# Altium schematic symbol library SCH - MCU - SI LABS - SI LABS EFR32MG12P231F1024GM68 68-PIN QFN 8X8.SchLib: 1 symbol
Pins are listed as number, name and electrical type; pins without a type are passive.

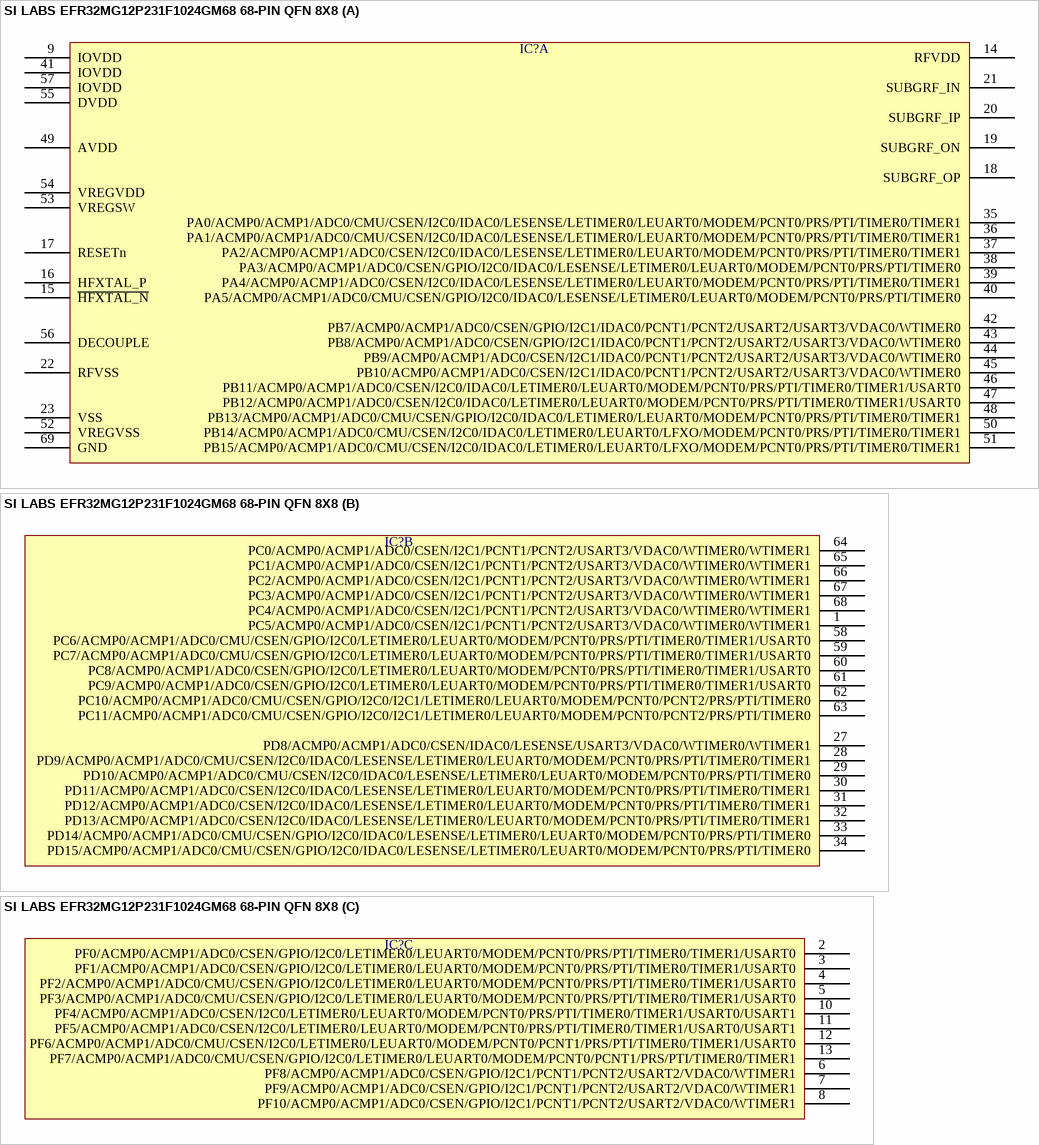
[diagram p0: symbol SI LABS EFR32MG12P231F1024GM68 68-PIN QFN 8X8]

## SI LABS EFR32MG12P231F1024GM68 68-PIN QFN 8X8
designator IC?  (value not drawn)
part A pins: 9 IOVDD, 14 RFVDD, 15 ~{HFXTAL_N}, 16 HFXTAL_P, 17 RESETn, 18 SUBGRF_OP, 19 SUBGRF_ON, 20 SUBGRF_IP, 21 SUBGRF_IN, 22 RFVSS, 23 VSS, 35 PA0/ACMP0/ACMP1/ADC0/CMU/CSEN/I2C0/IDAC0/LESENSE/LETIMER0/LEUART0/MODEM/PCNT0/PRS/PTI/TIMER0/TIMER1, 36 PA1/ACMP0/ACMP1/ADC0/CMU/CSEN/I2C0/IDAC0/LESENSE/LETIMER0/LEUART0/MODEM/PCNT0/PRS/PTI/TIMER0/TIMER1, 37 PA2/ACMP0/ACMP1/ADC0/CSEN/I2C0/IDAC0/LESENSE/LETIMER0/LEUART0/MODEM/PCNT0/PRS/PTI/TIMER0/TIMER1, 38 PA3/ACMP0/ACMP1/ADC0/CSEN/GPIO/I2C0/IDAC0/LESENSE/LETIMER0/LEUART0/MODEM/PCNT0/PRS/PTI/TIMER0, 39 PA4/ACMP0/ACMP1/ADC0/CSEN/I2C0/IDAC0/LESENSE/LETIMER0/LEUART0/MODEM/PCNT0/PRS/PTI/TIMER0/TIMER1, 40 PA5/ACMP0/ACMP1/ADC0/CMU/CSEN/GPIO/I2C0/IDAC0/LESENSE/LETIMER0/LEUART0/MODEM/PCNT0/PRS/PTI/TIMER0, 41 IOVDD, 42 PB7/ACMP0/ACMP1/ADC0/CSEN/GPIO/I2C1/IDAC0/PCNT1/PCNT2/USART2/USART3/VDAC0/WTIMER0, 43 PB8/ACMP0/ACMP1/ADC0/CSEN/GPIO/I2C1/IDAC0/PCNT1/PCNT2/USART2/USART3/VDAC0/WTIMER0, 44 PB9/ACMP0/ACMP1/ADC0/CSEN/I2C1/IDAC0/PCNT1/PCNT2/USART2/USART3/VDAC0/WTIMER0, 45 PB10/ACMP0/ACMP1/ADC0/CSEN/I2C1/IDAC0/PCNT1/PCNT2/USART2/USART3/VDAC0/WTIMER0, 46 PB11/ACMP0/ACMP1/ADC0/CSEN/I2C0/IDAC0/LETIMER0/LEUART0/MODEM/PCNT0/PRS/PTI/TIMER0/TIMER1/USART0, 47 PB12/ACMP0/ACMP1/ADC0/CSEN/I2C0/IDAC0/LETIMER0/LEUART0/MODEM/PCNT0/PRS/PTI/TIMER0/TIMER1/USART0, 48 PB13/ACMP0/ACMP1/ADC0/CMU/CSEN/GPIO/I2C0/IDAC0/LETIMER0/LEUART0/MODEM/PCNT0/PRS/PTI/TIMER0/TIMER1, 49 AVDD, 50 PB14/ACMP0/ACMP1/ADC0/CMU/CSEN/I2C0/IDAC0/LETIMER0/LEUART0/LFXO/MODEM/PCNT0/PRS/PTI/TIMER0/TIMER1, 51 PB15/ACMP0/ACMP1/ADC0/CMU/CSEN/I2C0/IDAC0/LETIMER0/LEUART0/LFXO/MODEM/PCNT0/PRS/PTI/TIMER0/TIMER1, 52 VREGVSS, 53 VREGSW, 54 VREGVDD, 55 DVDD, 56 DECOUPLE, 57 IOVDD, 69 GND
part B pins: 1 PC5/ACMP0/ACMP1/ADC0/CSEN/I2C1/PCNT1/PCNT2/USART3/VDAC0/WTIMER0/WTIMER1, 27 PD8/ACMP0/ACMP1/ADC0/CSEN/IDAC0/LESENSE/USART3/VDAC0/WTIMER0/WTIMER1, 28 PD9/ACMP0/ACMP1/ADC0/CMU/CSEN/I2C0/IDAC0/LESENSE/LETIMER0/LEUART0/MODEM/PCNT0/PRS/PTI/TIMER0/TIMER1, 29 PD10/ACMP0/ACMP1/ADC0/CMU/CSEN/I2C0/IDAC0/LESENSE/LETIMER0/LEUART0/MODEM/PCNT0/PRS/PTI/TIMER0, 30 PD11/ACMP0/ACMP1/ADC0/CSEN/I2C0/IDAC0/LESENSE/LETIMER0/LEUART0/MODEM/PCNT0/PRS/PTI/TIMER0/TIMER1, 31 PD12/ACMP0/ACMP1/ADC0/CSEN/I2C0/IDAC0/LESENSE/LETIMER0/LEUART0/MODEM/PCNT0/PRS/PTI/TIMER0/TIMER1, 32 PD13/ACMP0/ACMP1/ADC0/CSEN/I2C0/IDAC0/LESENSE/LETIMER0/LEUART0/MODEM/PCNT0/PRS/PTI/TIMER0/TIMER1, 33 PD14/ACMP0/ACMP1/ADC0/CMU/CSEN/GPIO/I2C0/IDAC0/LESENSE/LETIMER0/LEUART0/MODEM/PCNT0/PRS/PTI/TIMER0, 34 PD15/ACMP0/ACMP1/ADC0/CMU/CSEN/GPIO/I2C0/IDAC0/LESENSE/LETIMER0/LEUART0/MODEM/PCNT0/PRS/PTI/TIMER0, 58 PC6/ACMP0/ACMP1/ADC0/CMU/CSEN/GPIO/I2C0/LETIMER0/LEUART0/MODEM/PCNT0/PRS/PTI/TIMER0/TIMER1/USART0, 59 PC7/ACMP0/ACMP1/ADC0/CMU/CSEN/GPIO/I2C0/LETIMER0/LEUART0/MODEM/PCNT0/PRS/PTI/TIMER0/TIMER1/USART0, 60 PC8/ACMP0/ACMP1/ADC0/CSEN/GPIO/I2C0/LETIMER0/LEUART0/MODEM/PCNT0/PRS/PTI/TIMER0/TIMER1/USART0, 61 PC9/ACMP0/ACMP1/ADC0/CSEN/GPIO/I2C0/LETIMER0/LEUART0/MODEM/PCNT0/PRS/PTI/TIMER0/TIMER1/USART0, 62 PC10/ACMP0/ACMP1/ADC0/CMU/CSEN/GPIO/I2C0/I2C1/LETIMER0/LEUART0/MODEM/PCNT0/PCNT2/PRS/PTI/TIMER0, 63 PC11/ACMP0/ACMP1/ADC0/CMU/CSEN/GPIO/I2C0/I2C1/LETIMER0/LEUART0/MODEM/PCNT0/PCNT2/PRS/PTI/TIMER0, 64 PC0/ACMP0/ACMP1/ADC0/CSEN/I2C1/PCNT1/PCNT2/USART3/VDAC0/WTIMER0/WTIMER1, 65 PC1/ACMP0/ACMP1/ADC0/CSEN/I2C1/PCNT1/PCNT2/USART3/VDAC0/WTIMER0/WTIMER1, 66 PC2/ACMP0/ACMP1/ADC0/CSEN/I2C1/PCNT1/PCNT2/USART3/VDAC0/WTIMER0/WTIMER1, 67 PC3/ACMP0/ACMP1/ADC0/CSEN/I2C1/PCNT1/PCNT2/USART3/VDAC0/WTIMER0/WTIMER1, 68 PC4/ACMP0/ACMP1/ADC0/CSEN/I2C1/PCNT1/PCNT2/USART3/VDAC0/WTIMER0/WTIMER1
part C pins: 2 PF0/ACMP0/ACMP1/ADC0/CSEN/GPIO/I2C0/LETIMER0/LEUART0/MODEM/PCNT0/PRS/PTI/TIMER0/TIMER1/USART0, 3 PF1/ACMP0/ACMP1/ADC0/CSEN/GPIO/I2C0/LETIMER0/LEUART0/MODEM/PCNT0/PRS/PTI/TIMER0/TIMER1/USART0, 4 PF2/ACMP0/ACMP1/ADC0/CMU/CSEN/GPIO/I2C0/LETIMER0/LEUART0/MODEM/PCNT0/PRS/PTI/TIMER0/TIMER1/USART0, 5 PF3/ACMP0/ACMP1/ADC0/CMU/CSEN/GPIO/I2C0/LETIMER0/LEUART0/MODEM/PCNT0/PRS/PTI/TIMER0/TIMER1/USART0, 6 PF8/ACMP0/ACMP1/ADC0/CSEN/GPIO/I2C1/PCNT1/PCNT2/USART2/VDAC0/WTIMER1, 7 PF9/ACMP0/ACMP1/ADC0/CSEN/GPIO/I2C1/PCNT1/PCNT2/USART2/VDAC0/WTIMER1, 8 PF10/ACMP0/ACMP1/ADC0/CSEN/GPIO/I2C1/PCNT1/PCNT2/USART2/VDAC0/WTIMER1, 10 PF4/ACMP0/ACMP1/ADC0/CSEN/I2C0/LETIMER0/LEUART0/MODEM/PCNT0/PRS/PTI/TIMER0/TIMER1/USART0/USART1, 11 PF5/ACMP0/ACMP1/ADC0/CSEN/I2C0/LETIMER0/LEUART0/MODEM/PCNT0/PRS/PTI/TIMER0/TIMER1/USART0/USART1, 12 PF6/ACMP0/ACMP1/ADC0/CMU/CSEN/I2C0/LETIMER0/LEUART0/MODEM/PCNT0/PCNT1/PRS/PTI/TIMER0/TIMER1/USART0, 13 PF7/ACMP0/ACMP1/ADC0/CMU/CSEN/GPIO/I2C0/LETIMER0/LEUART0/MODEM/PCNT0/PCNT1/PRS/PTI/TIMER0/TIMER1